# Altium footprint library fp1.PcbLib: 1 footprints
Each footprint in its own frame and in the unit in brackets; x right, y up, seen from the top. Pads: shape width x height; smd on the part's side, far side on the other; paste and mask are expansions set on the pad; w line width, h text height; cw(c..) or ccw(c..) is an arc to the next point about the centre after c.
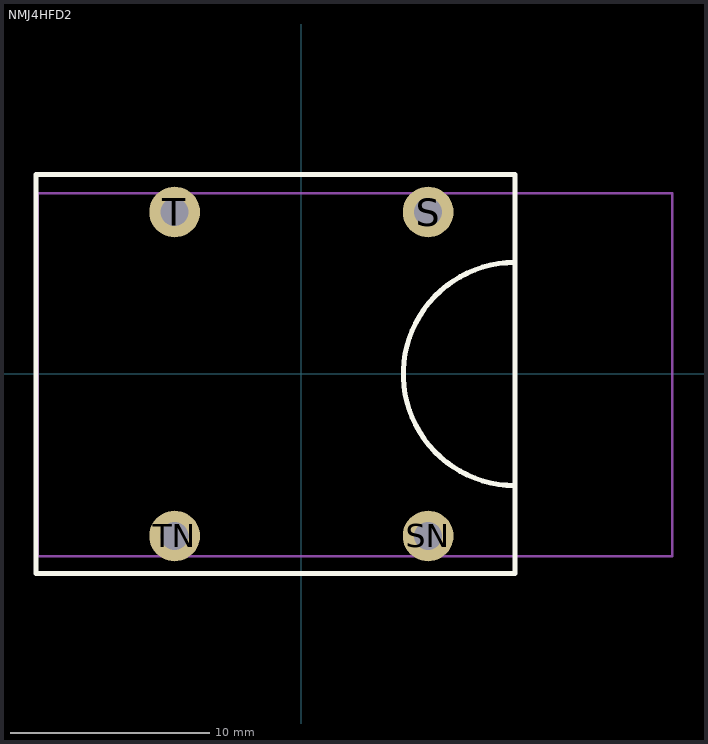
[diagram p0: the footprint, top view; thin cyan lines are the x and y axes]

## NMJ4HFD2 [mil]
pads (4):
  round 100 hole 55.12: S(250,319.5) SN(250,-319.5) T(-250,319.5) TN(-250,-319.5)
Top Overlay:
  lines w10: 421,-220 cw(c421,0) 421,220 ; -523.88,-393.7 -295.28,-393.7 295.28,-393.7 421,-393.7 421,280.13 421,319.5 421,393.7 295.28,393.7 -295.28,393.7 -523.88,393.7 -523.88,358.87 -523.88,-349.79 -523.88,-393.7
Mechanical 13:
  lines w5: -519.68,-359.25 -519.68,356.3 731.3,356.3 731.3,-359.25 -519.68,-359.25
3D body "SW3dPS-NMJ4HCD2.STEP": height 637.09, standoff -147.95, extent -520,-360 731.73,356.54